# EAGLE library part W25Q128FVSIG (library SPIFlash)
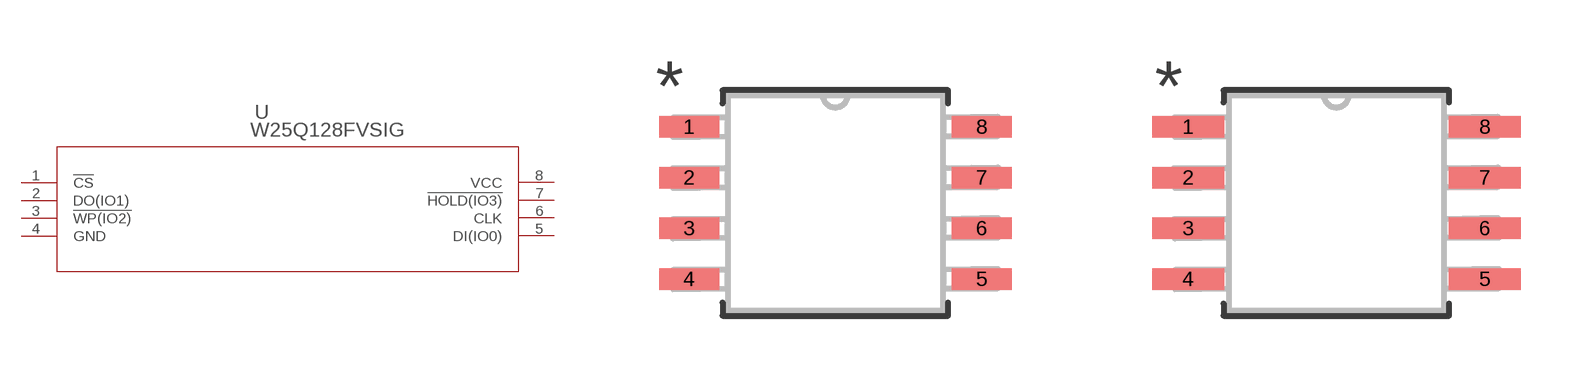
[diagram p0: symbol with the pads of WIN_S-8_WIN; footprints WIN_S-8_WIN, WIN_S-8_WIN-M]

Designator prefix U

## W25Q128FVSIG (BUILT_BY: EMA_UL_Team; COPYRIGHT: Copyright (C) 2018 Accelerated Designs. All rights reserved; MANUFACTURER_PART_NUMBER: W25Q128FVSIG; SOURCELIBRARY: Winbond_2018-12-15; VENDOR: Winbond)  [WIN_S-8_WIN]
1  !CS  in
2  DO(IO1)
3  !WP(IO2)
4  GND  pwr
5  DI(IO0)
6  CLK  in
7  !HOLD(IO3)
8  VCC  pwr

## W25Q128FVSIGWIN_S-8_WIN-M (BUILT_BY: EMA_UL_Team; COPYRIGHT: Copyright (C) 2018 Accelerated Designs. All rights reserved; MANUFACTURER_PART_NUMBER: W25Q128FVSIG; SOURCELIBRARY: Winbond_2018-12-15; VENDOR: Winbond)  [WIN_S-8_WIN-M]
Pads as for WIN_S-8_WIN

## W25Q128FVSIGWIN_S-8_WIN-L (BUILT_BY: EMA_UL_Team; COPYRIGHT: Copyright (C) 2018 Accelerated Designs. All rights reserved; MANUFACTURER_PART_NUMBER: W25Q128FVSIG; SOURCELIBRARY: Winbond_2018-12-15; VENDOR: Winbond)  [WIN_S-8_WIN-L]
Pads as for WIN_S-8_WIN

## Footprint WIN_S-8_WIN (pad centres in mm)
smd 1.499 x 0.533: 1 -3.658,1.905; 2 -3.658,0.635; 3 -3.658,-0.635; 4 -3.658,-1.905; 5 3.658,-1.905; 6 3.658,-0.635; 7 3.658,0.635; 8 3.658,1.905

## Footprint WIN_S-8_WIN-M (pad centres in mm)
smd 1.803 x 0.533: 1 -3.708,1.905; 2 -3.708,0.635; 3 -3.708,-0.635; 4 -3.708,-1.905; 5 3.708,-1.905; 6 3.708,-0.635; 7 3.708,0.635; 8 3.708,1.905

## Footprint WIN_S-8_WIN-L (pad centres in mm)
smd 1.194 x 0.483: 1 -3.607,1.905; 2 -3.607,0.635; 3 -3.607,-0.635; 4 -3.607,-1.905; 5 3.607,-1.905; 6 3.607,-0.635; 7 3.607,0.635; 8 3.607,1.905